# Altium footprint library CONNECTOR.PcbLib: 181 footprints (part 10 of 12)
Each footprint in its own frame and in the unit in brackets; x right, y up, seen from the top. Pads: shape width x height; smd on the part's side, far side on the other; paste and mask are expansions set on the pad; w line width, h text height; cw(c..) or ccw(c..) is an arc to the next point about the centre after c.
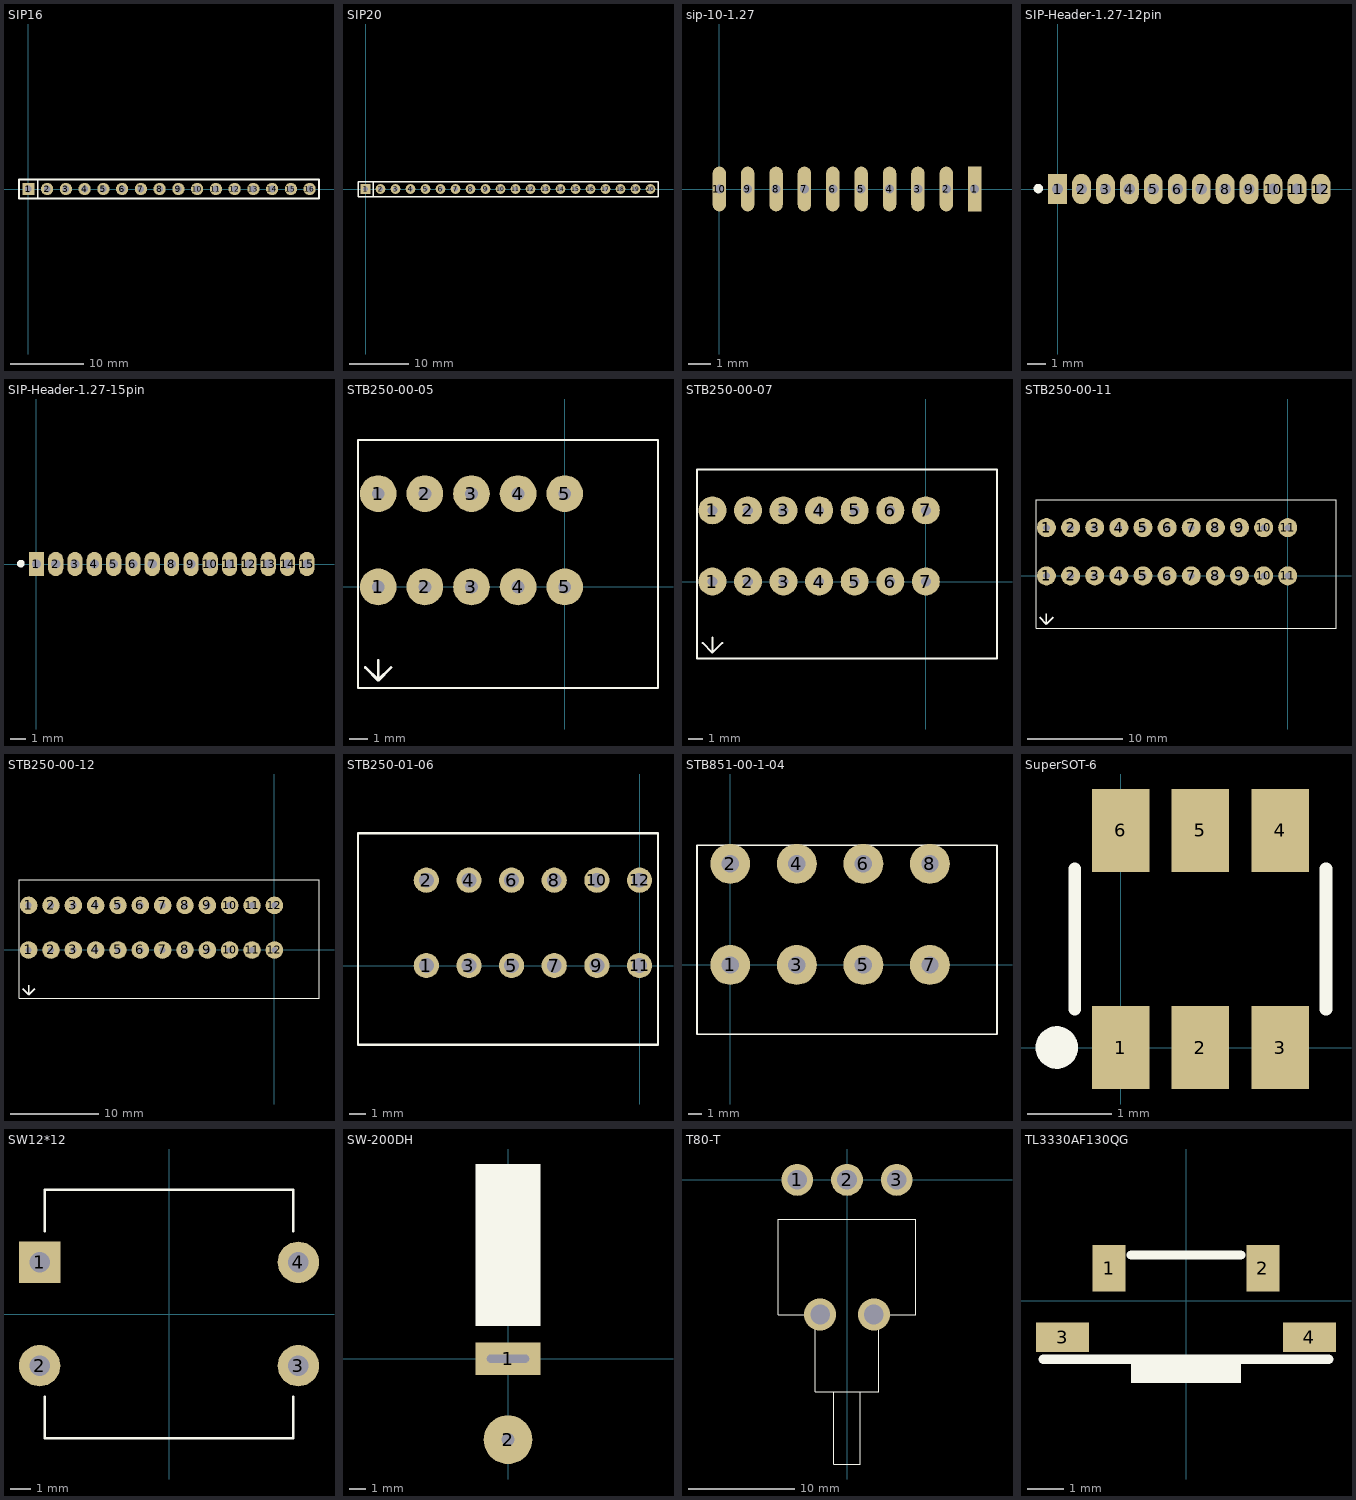
[diagram p9: the footprints below, top view; thin cyan lines are the x and y axes]

## SIP16 [mil]
pads (16):
  rect 65x65 hole 35: 1(0,0)
  round 65 hole 35: 2(100,0) 3(200,0) 4(300,0) 5(400,0) 6(500,0) 7(600,0) 8(700,0) 9(800,0) 10(900,0) 11(1000,0) 12(1100,0) 13(1200,0) 14(1300,0) 15(1400,0) 16(1500,0)
Top Overlay:
  lines w10: 50,-50 50,50 ; -50,-50 -50,50 1550,50 1550,-50 -50,-50

## SIP20 [mil]
pads (20):
  rect 65x65 hole 35: 1(0,0)
  round 65 hole 35: 2(100,0) 3(200,0) 4(300,0) 5(400,0) 6(500,0) 7(600,0) 8(700,0) 9(800,0) 10(900,0) 11(1000,0) 12(1100,0) 13(1200,0) 14(1300,0) 15(1400,0) 16(1500,0) 17(1600,0) 18(1700,0) 19(1800,0) 20(1900,0)
Top Overlay:
  lines w10: 50,-50 50,50 ; -50,-50 1950,-50 1950,50 -50,50 -50,-50

## sip-10-1.27 [mm] "1.27mm pitch"
pads (10):
  rect 0.6x2 hole 0.4: 1(11.43,0)
  oval 0.6x2 hole 0.4: 2(10.16,0) 3(8.89,0) 4(7.62,0) 5(6.35,0) 6(5.08,0) 7(3.81,0) 8(2.54,0) 9(1.27,0) 10(0,0)

## SIP-Header-1.27-12pin [mm] "1.27mm,12pin,排针"
height 0.102
pads (12):
  rect 1x1.6 hole 0.6: 1(0,0)
  oval 1x1.6 hole 0.6: 2(1.27,0) 3(2.54,0) 4(3.81,0) 5(5.08,0) 6(6.35,0) 7(7.62,0) 8(8.89,0) 9(10.16,0) 10(11.43,0) 11(12.7,0) 12(13.97,0)
Top Overlay:
  circle w0.254: c-1.018,0.025 r0.125

## SIP-Header-1.27-15pin [mm] "1.27mm,pin header,single row"
height 4.3
pads (15):
  rect 1x1.6 hole 0.6: 1(0,0)
  oval 1x1.6 hole 0.6: 2(1.27,0) 3(2.54,0) 4(3.81,0) 5(5.08,0) 6(6.35,0) 7(7.62,0) 8(8.89,0) 9(10.16,0) 10(11.43,0) 11(12.7,0) 12(13.97,0) 13(15.24,0) 14(16.51,0) 15(17.78,0)
Top Overlay:
  circle w0.254: c-1.018,0.025 r0.125

## STB250-00-05 [mm]
height 11
pads (10):
  round 2 hole 0.7: 1(-10.16,0) 1(-10.16,5.08) 2(-7.62,0) 2(-7.62,5.08) 3(-5.08,0) 3(-5.08,5.08) 4(-2.54,0) 4(-2.54,5.08) 5(0,0) 5(0,5.08)
Top Overlay:
  lines w0.127: -11.26,-5.5 5.08,-5.5 5.08,8 -11.26,8 -11.26,-5.5
  lines w0.152: -10.86,-4.38 -10.16,-5.08 ; -10.16,-4 -10.16,-5.08 ; -9.46,-4.38 -10.16,-5.08

## STB250-00-07 [mm]
height 11
pads (14):
  round 2 hole 0.7: 1(-15.24,0) 1(-15.24,5.08) 2(-12.7,0) 2(-12.7,5.08) 3(-10.16,0) 3(-10.16,5.08) 4(-7.62,0) 4(-7.62,5.08) 5(-5.08,0) 5(-5.08,5.08) 6(-2.54,0) 6(-2.54,5.08) 7(0,0) 7(0,5.08)
Top Overlay:
  lines w0.127: -16.34,-5.5 5.08,-5.5 5.08,8 -16.34,8 -16.34,-5.5
  lines w0.152: -15.94,-4.38 -15.24,-5.08 ; -15.24,-4 -15.24,-5.08 ; -14.54,-4.38 -15.24,-5.08

## STB250-00-11 [mm]
height 11
pads (22):
  round 2 hole 0.7: 1(-25.4,0) 1(-25.4,5.08) 2(-22.86,0) 2(-22.86,5.08) 3(-20.32,0) 3(-20.32,5.08) 4(-17.78,0) 4(-17.78,5.08) 5(-15.24,0) 5(-15.24,5.08) 6(-12.7,0) 6(-12.7,5.08) 7(-10.16,0) 7(-10.16,5.08) 8(-7.62,0) 8(-7.62,5.08) 9(-5.08,0) 9(-5.08,5.08) 10(-2.54,0) 10(-2.54,5.08) 11(0,0) 11(0,5.08)
Top Overlay:
  lines w0.127: -26.5,-5.5 5.08,-5.5 5.08,8 -26.5,8 -26.5,-5.5
  lines w0.152: -26.1,-4.38 -25.4,-5.08 ; -25.4,-4 -25.4,-5.08 ; -24.7,-4.38 -25.4,-5.08

## STB250-00-12 [mm]
height 11
pads (24):
  round 2 hole 0.7: 1(-27.94,0) 1(-27.94,5.08) 2(-25.4,0) 2(-25.4,5.08) 3(-22.86,0) 3(-22.86,5.08) 4(-20.32,0) 4(-20.32,5.08) 5(-17.78,0) 5(-17.78,5.08) 6(-15.24,0) 6(-15.24,5.08) 7(-12.7,0) 7(-12.7,5.08) 8(-10.16,0) 8(-10.16,5.08) 9(-7.62,0) 9(-7.62,5.08) 10(-5.08,0) 10(-5.08,5.08) 11(-2.54,0) 11(-2.54,5.08) 12(0,0) 12(0,5.08)
Top Overlay:
  lines w0.127: -29.04,-5.5 5.08,-5.5 5.08,8 -29.04,8 -29.04,-5.5
  lines w0.152: -28.64,-4.38 -27.94,-5.08 ; -27.94,-4 -27.94,-5.08 ; -27.24,-4.38 -27.94,-5.08

## STB250-01-06 [mm]
height 13.4
pads (12):
  round 1.5 hole 0.889: 1(-12.7,0) 2(-12.7,5.08) 3(-10.16,0) 4(-10.16,5.08) 5(-7.62,0) 6(-7.62,5.08) 7(-5.08,0) 8(-5.08,5.08) 9(-2.54,0) 10(-2.54,5.08) 11(0,0) 12(0,5.08)
Top Overlay:
  lines w0.127: -16.767,-4.72 -16.767,7.88 1.1,7.88 1.1,-4.72 -16.767,-4.72

## STB851-00-1-04 [mm] "杰特STB851 5.0MM PITCH"
height 13
pads (8):
  round 3 hole 1.3: 1(0,0) 2(0,7.6) 3(5,0) 4(5,7.6) 5(10,0) 6(10,7.6) 7(15,0) 8(15,7.6)
Top Overlay:
  lines w0.127: -2.5,-5.2 -2.5,9 20.04,9 20.04,-5.2 -2.5,-5.2

## SuperSOT-6 [mil] "FOR FDC2512"
pads (6):
  rect 27x39 smd: 1(0,0) 2(37.5,0) 3(75,0) 4(75,102) 5(37.5,102) 6(0,102)
Top Overlay:
  circle w10: c-30,0 r5
  lines w6: -21.5,18 -21.5,84 ; 96.5,18 96.5,84

## SW12*12 [mm]
height 3.6
pads (4):
  rect 2x2 hole 1: 1(-6.25,2.5)
  round 2 hole 1: 2(-6.25,-2.5) 3(6.25,-2.5) 4(6.25,2.5)
Top Overlay:
  lines w0.127: -6,-4 -6,-6 6,-6 6,-4 ; -6,4 -6,6 6,6 6,4

## SW-200DH [mm] "滚珠开关"
height 5
pads (2):
  rect 4x2 hole 0.5 slot 2.6 at 0 deg: 1(0,0)
  round 3 hole 0.8: 2(0,-5)
Top Overlay:
  rectangle: -2,2 2,12

## T80-T [mm]
height 7
pads (3):
  round 3 hole 1.85: 1(-4.69,0) 2(0,0) 3(4.69,0)
via -2.54,-12.7 diameter 3 hole 1.85
via 2.54,-12.7 diameter 3 hole 1.85
Top Overlay:
  lines w0.102: -4.064,-12.7 -6.5,-12.7 -6.5,-3.7 6.5,-3.7 6.5,-12.7 4.064,-12.7 ; -3,-14 -3,-20 3,-20 3,-14 ; -1.27,-20 -1.27,-26.8 1.27,-26.8 1.27,-20

## TL3330AF130QG [mm] "贴片轻触开关"
height 3.5
pads (4):
  rect 0.9x1.27 smd: 1(-2.1,0.885) 2(2.1,0.885)
  rect 1.45x0.8 smd: 3(-3.375,-1) 4(3.375,-1)
Top Overlay:
  rectangle: -1.5,-2.25 1.5,-1.6
  lines w0.254: -3.9,-1.6 3.9,-1.6 ; -1.5,1.25 1.5,1.25